# EAGLE library part SIM808 (library Bat-Components)
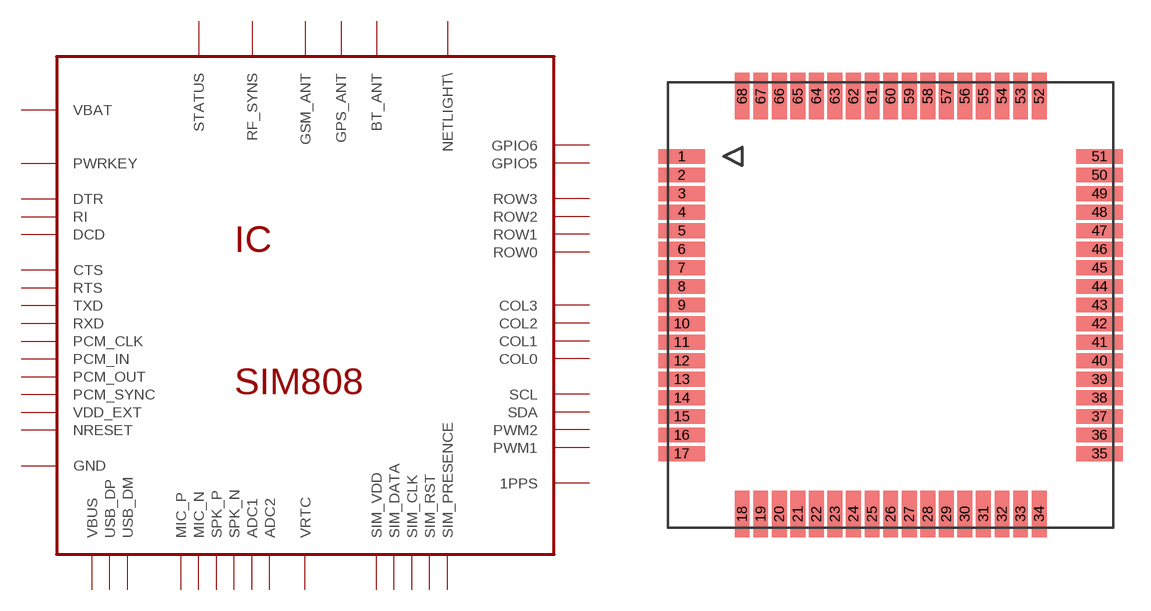
[diagram p11: symbol with the pads of SIM808; footprint SIM808]

Designator prefix IC

## SIM808  [SIM808]
1  GND
2  GND
3  GND
4  VBAT
5  VBAT
6  VBAT
7  VDD_EXT
8  PWRKEY
9  DTR
10  RI
11  DCD
12  CTS
13  RTS
14  TXD
15  RXD
16  NRESET
17  VRTC
18  GND
19  MIC_P
20  MIC_N
21  SPK_P
22  SPK_N
23  ADC1
24  ADC2
25  VBUS
26  USB_DP
27  USB_DM
28  GND
29  SIM_VDD
30  SIM_DATA
31  SIM_CLK
32  SIM_RST
33  SIM_PRESENCE
34  GND
35  GPS_ANT
36  GND
37  1PPS
38  SDA
39  SCL
40  GND
41  PWM2
42  PWM1
43  GPIO5
44  GPIO6
45  PCM_SYNC
46  PCM_CLK
47  PCM_IN
48  PCM_OUT
49  STATUS
50  NETLIGHT\
51  GND
52  GND
53  BT_ANT
54  GND
55  ROW3
56  ROW2
57  ROW1
58  ROW0
59  COL3
60  COL2
61  COL1
62  COL0
63  RF_SYNS
64  GND
65  GND
66  GSM_ANT
67  GND
68  GND

## Footprint SIM808 (pad centres in mm)
smd 2.5 x 0.8: 1 -11.25,8; 2 -11.25,7; 3 -11.25,6; 4 -11.25,5; 5 -11.25,4; 6 -11.25,3; 7 -11.25,2; 8 -11.25,1; 9 -11.25,0; 10 -11.25,-1; 11 -11.25,-2; 12 -11.25,-3; 13 -11.25,-4; 14 -11.25,-5; 15 -11.25,-6; 16 -11.25,-7; 17 -11.25,-8; 35 11.25,-8; 36 11.25,-7; 37 11.25,-6; 38 11.25,-5; 39 11.25,-4; 40 11.25,-3; 41 11.25,-2; 42 11.25,-1; 43 11.25,0; 44 11.25,1; 45 11.25,2; 46 11.25,3; 47 11.25,4; 48 11.25,5; 49 11.25,6; 50 11.25,7; 51 11.25,8
smd 0.8 x 2.5: 18 -8,-11.25; 19 -7,-11.25; 20 -6,-11.25; 21 -5,-11.25; 22 -4,-11.25; 23 -3,-11.25; 24 -2,-11.25; 25 -1,-11.25; 26 0,-11.25; 27 1,-11.25; 28 2,-11.25; 29 3,-11.25; 30 4,-11.25; 31 5,-11.25; 32 6,-11.25; 33 7,-11.25; 34 8,-11.25; 52 8,11.25; 53 7,11.25; 54 6,11.25; 55 5,11.25; 56 4,11.25; 57 3,11.25; 58 2,11.25; 59 1,11.25; 60 0,11.25; 61 -1,11.25; 62 -2,11.25; 63 -3,11.25; 64 -4,11.25; 65 -5,11.25; 66 -6,11.25; 67 -7,11.25; 68 -8,11.25